# Altium footprint library OWMR.PcbLib: 59 footprints (part 2 of 4)
Each footprint in its own frame and in the unit in brackets; x right, y up, seen from the top. Pads: shape width x height; smd on the part's side, far side on the other; paste and mask are expansions set on the pad; w line width, h text height; cw(c..) or ccw(c..) is an arc to the next point about the centre after c.
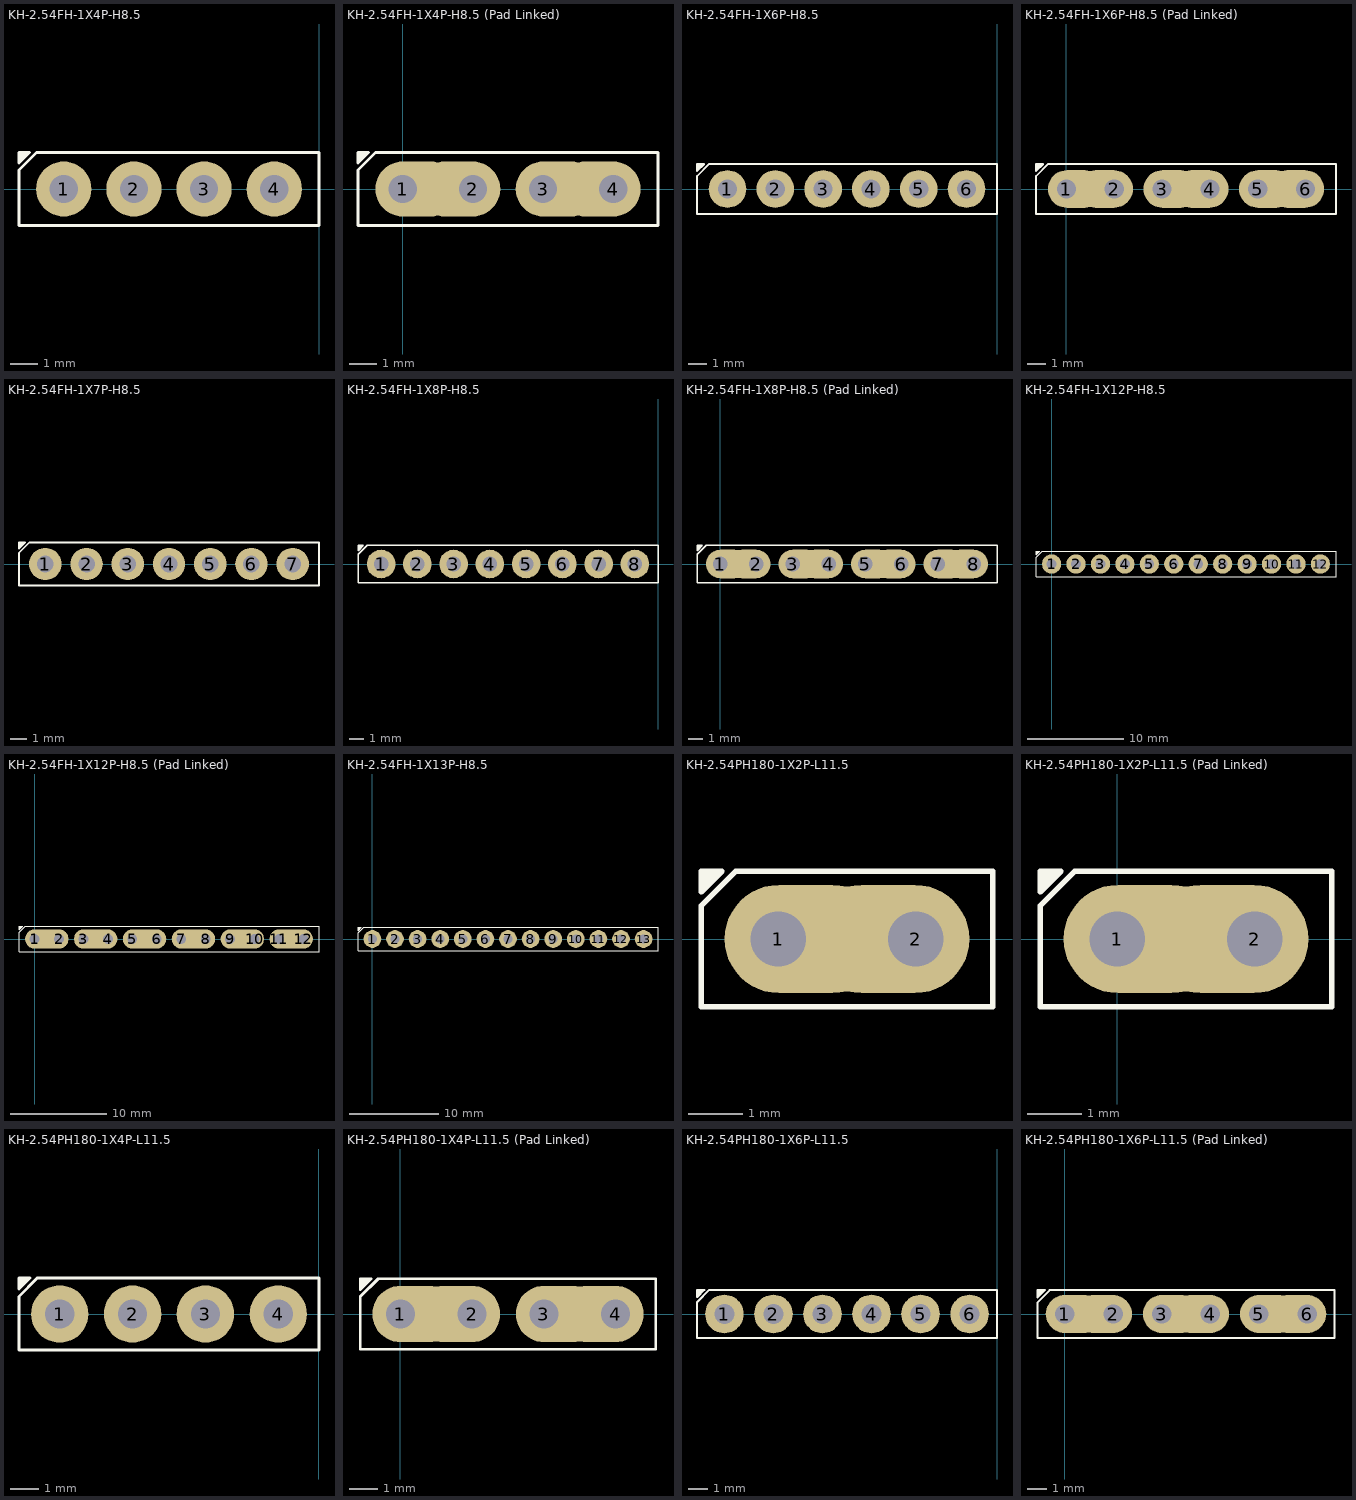
[diagram p1: the footprints below, top view; thin cyan lines are the x and y axes]

## KH-2.54FH-1X4P-H8.5 [mm] "1x4P Female Headers"
height 8.5
pads (4):
  round 2 hole 1.02: 1(-9.24,0) 2(-6.7,0) 3(-4.16,0) 4(-1.62,0)
Top Overlay:
  region: -10.479,1.325 -10.86,1.325 -10.86,0.944
  lines w0.1: -10.86,-1.325 0,-1.325 0,1.325 -10.225,1.325 -10.86,0.69 -10.86,-1.325 ; -10.86,0.944 -10.479,1.325 -10.86,1.325 -10.86,0.944
3D body: height 8.65, standoff 0, extent -10.857,-1.335 0,1.315
3D body: height 3.2, standoff 0, extent -10.891,-1.325 0,1.325

## KH-2.54FH-1X4P-H8.5 (Pad Linked) [mm] "Two Pad Linked, 1x4P Female Headers"
height 8.5
pads (4):
  oval 3x2 hole 1.02 copper offset 0.51,0: 1(0,0) 3(5.08,0)
  oval 3x2 hole 1.02 copper offset -0.51,0: 2(2.54,0) 4(7.62,0)
Top Overlay:
  region: -1.239,1.325 -1.62,1.325 -1.62,0.944
  lines w0.1: -1.62,-1.325 -1.62,0.69 -0.985,1.325 9.24,1.325 9.24,-1.325 -1.62,-1.325 ; -1.62,0.944 -1.62,1.325 -1.239,1.325 -1.62,0.944
3D body: height 8.65, standoff 0, extent -1.617,-1.335 9.24,1.315
3D body: height 3.2, standoff 0, extent -1.651,-1.325 9.24,1.325

## KH-2.54FH-1X6P-H8.5 [mm] "1x6P Female Headers"
height 8.5
pads (6):
  round 2 hole 1.02: 1(-14.32,0) 2(-11.78,0) 3(-9.24,0) 4(-6.7,0) 5(-4.16,0) 6(-1.62,0)
Top Overlay:
  region: -15.559,1.325 -15.94,1.325 -15.94,0.944
  lines w0.1: -15.94,-1.325 0,-1.325 0,1.325 -15.305,1.325 -15.94,0.69 -15.94,-1.325 ; -15.94,0.944 -15.559,1.325 -15.94,1.325 -15.94,0.944
3D body: height 8.65, standoff 0, extent -15.937,-1.335 0,1.315
3D body: height 3.2, standoff 0, extent -15.971,-1.325 0,1.325

## KH-2.54FH-1X6P-H8.5 (Pad Linked) [mm] "Two Pad Linked, 1x6P Female Headers"
height 8.5
pads (6):
  oval 3x2 hole 1.02 copper offset 0.51,0: 1(0,0) 3(5.08,0) 5(10.16,0)
  oval 3x2 hole 1.02 copper offset -0.51,0: 2(2.54,0) 4(7.62,0) 6(12.7,0)
Top Overlay:
  region: -1.239,1.325 -1.62,1.325 -1.62,0.944
  lines w0.1: -1.62,-1.325 14.32,-1.325 14.32,1.325 -0.985,1.325 -1.62,0.69 -1.62,-1.325 ; -1.62,0.944 -1.239,1.325 -1.62,1.325 -1.62,0.944
3D body: height 8.65, standoff 0, extent -1.617,-1.335 14.32,1.315
3D body: height 3.2, standoff 0, extent -1.651,-1.325 14.32,1.325

## KH-2.54FH-1X7P-H8.5 [mm] "1x7P Female Headers"
height 8.5
pads (7):
  round 2 hole 1.02: 1(-19.4,0) 2(-16.86,0) 3(-14.32,0) 4(-11.78,0) 5(-9.24,0) 6(-6.7,0) 7(-4.16,0)
Top Overlay:
  region: -20.639,1.325 -21.02,1.325 -21.02,0.944
  lines w0.1: -21.02,-1.325 -21.02,0.69 -20.385,1.325 -2.54,1.325 -2.54,-1.325 -21.02,-1.325 ; -21.02,0.944 -21.02,1.325 -20.639,1.325 -21.02,0.944
3D body: height 8.65, standoff 0, extent -21.017,-1.335 -2.54,1.315
3D body: height 3.2, standoff 0, extent -21.051,-1.325 -2.54,1.325

## KH-2.54FH-1X8P-H8.5 [mm] "1x8P Female Headers"
height 8.5
pads (8):
  round 2 hole 1.02: 1(-19.4,0) 2(-16.86,0) 3(-14.32,0) 4(-11.78,0) 5(-9.24,0) 6(-6.7,0) 7(-4.16,0) 8(-1.62,0)
Top Overlay:
  region: -20.639,1.325 -21.02,1.325 -21.02,0.944
  lines w0.1: -21.02,-1.325 0,-1.325 0,1.325 -20.385,1.325 -21.02,0.69 -21.02,-1.325 ; -21.02,0.944 -20.639,1.325 -21.02,1.325 -21.02,0.944
3D body: height 8.65, standoff 0, extent -21.017,-1.335 0,1.315
3D body: height 3.2, standoff 0, extent -21.051,-1.325 0,1.325

## KH-2.54FH-1X8P-H8.5 (Pad Linked) [mm] "Two Pad Linked, 1x8P Female Headers"
height 8.5
pads (8):
  oval 3x2 hole 1.02 copper offset 0.51,0: 1(0,0) 3(5.08,0) 5(10.16,0) 7(15.24,0)
  oval 3x2 hole 1.02 copper offset -0.51,0: 2(2.54,0) 4(7.62,0) 6(12.7,0) 8(17.78,0)
Top Overlay:
  region: -1.239,1.325 -1.62,1.325 -1.62,0.944
  lines w0.1: -1.62,-1.325 19.4,-1.325 19.4,1.325 -0.985,1.325 -1.62,0.69 -1.62,-1.325 ; -1.62,0.944 -1.239,1.325 -1.62,1.325 -1.62,0.944
3D body: height 8.65, standoff 0, extent -1.617,-1.335 19.4,1.315
3D body: height 3.2, standoff 0, extent -1.651,-1.325 19.4,1.325

## KH-2.54FH-1X12P-H8.5 [mm] "1x12P Female Headers"
height 8.5
pads (12):
  round 2 hole 1.02: 1(0,0) 2(2.54,0) 3(5.08,0) 4(7.62,0) 5(10.16,0) 6(12.7,0) 7(15.24,0) 8(17.78,0) 9(20.32,0) 10(22.86,0) 11(25.4,0) 12(27.94,0)
Top Overlay:
  region: -1.239,1.325 -1.62,1.325 -1.62,0.944
  lines w0.1: -1.62,-1.325 -1.62,0.69 -0.985,1.325 29.56,1.325 29.56,-1.325 -1.62,-1.325 ; -1.62,0.944 -1.62,1.325 -1.239,1.325 -1.62,0.944
3D body: height 8.65, standoff 0, extent -1.617,-1.335 29.563,1.315
3D body: height 3.2, standoff 0, extent -1.651,-1.325 29.529,1.325

## KH-2.54FH-1X12P-H8.5 (Pad Linked) [mm] "Two Pad Linked, 1x12P Female Headers"
height 8.5
pads (12):
  oval 3x2 hole 1.02 copper offset 0.51,0: 1(0,0) 3(5.08,0) 5(10.16,0) 7(15.24,0) 9(20.32,0) 11(25.4,0)
  oval 3x2 hole 1.02 copper offset -0.51,0: 2(2.54,0) 4(7.62,0) 6(12.7,0) 8(17.78,0) 10(22.86,0) 12(27.94,0)
Top Overlay:
  region: -1.239,1.325 -1.62,1.325 -1.62,0.944
  lines w0.1: -1.62,-1.325 -1.62,0.69 -0.985,1.325 29.56,1.325 29.56,-1.325 -1.62,-1.325 ; -1.62,0.944 -1.62,1.325 -1.239,1.325 -1.62,0.944
3D body: height 8.65, standoff 0, extent -1.617,-1.335 29.563,1.315
3D body: height 3.2, standoff 0, extent -1.651,-1.325 29.529,1.325

## KH-2.54FH-1X13P-H8.5 [mm] "1x13P Female Headers"
height 8.5
pads (13):
  round 2 hole 1.02: 1(0,0) 2(2.54,0) 3(5.08,0) 4(7.62,0) 5(10.16,0) 6(12.7,0) 7(15.24,0) 8(17.78,0) 9(20.32,0) 10(22.86,0) 11(25.4,0) 12(27.94,0) 13(30.48,0)
Top Overlay:
  region: -1.239,1.325 -1.62,1.325 -1.62,0.944
  lines w0.1: -1.62,-1.325 -1.62,0.69 -0.985,1.325 32.1,1.325 32.1,-1.325 -1.62,-1.325 ; -1.62,0.944 -1.62,1.325 -1.239,1.325 -1.62,0.944
3D body: height 8.65, standoff 0, extent -1.617,-1.335 32.1,1.315
3D body: height 3.2, standoff 0, extent -1.651,-1.325 32.1,1.325

## KH-2.54PH180-1X2P-L11.5 [mm] "1x2P Pin Headers"
height 11.5
pads (2):
  oval 3x2 hole 1.02 copper offset 0.51,0: 1(-7.62,0)
  oval 3x2 hole 1.02 copper offset -0.51,0: 2(-5.08,0)
Top Overlay:
  region: -8.659,1.25 -9.04,1.25 -9.04,0.869
  lines w0.1: -9.04,-1.25 -9.04,0.615 -8.405,1.25 -3.66,1.25 -3.66,-1.25 -9.04,-1.25 ; -9.04,0.869 -8.659,1.25 -9.04,1.25 -9.04,0.869
3D body: height 8.9, standoff 0, extent -9.04,-1.25 -3.66,1.25
3D body: height 3.2, standoff 0, extent -9.04,-1.25 -3.66,1.25

## KH-2.54PH180-1X2P-L11.5 (Pad Linked) [mm] "Two Pad linked, 1x2P Pin Headers"
height 11.5
pads (2):
  oval 3x2 hole 1.02 copper offset 0.51,0: 1(0,0)
  oval 3x2 hole 1.02 copper offset -0.51,0: 2(2.54,0)
Top Overlay:
  region: -1.039,1.25 -1.42,1.25 -1.42,0.869
  lines w0.1: -1.42,-1.25 -1.42,0.615 -0.785,1.25 3.96,1.25 3.96,-1.25 -1.42,-1.25 ; -1.42,0.869 -1.039,1.25 -1.42,1.25 -1.42,0.869
3D body: height 3.2, standoff 0, extent -1.42,-1.25 3.96,1.25
3D body: height 8.9, standoff 0, extent -1.42,-1.25 3.96,1.25

## KH-2.54PH180-1X4P-L11.5 [mm] "1x4P Pin Headers"
height 11.5
pads (4):
  round 2 hole 1.02: 1(-9.04,0) 2(-6.5,0) 3(-3.96,0) 4(-1.42,0)
Top Overlay:
  region: -10.079,1.25 -10.46,1.25 -10.46,0.869
  lines w0.1: -10.46,-1.25 0,-1.25 0,1.25 -9.825,1.25 -10.46,0.615 -10.46,-1.25 ; -10.46,0.869 -10.46,1.25 -10.079,1.25 -10.46,0.869
3D body: height 3.2, standoff 0, extent -10.46,-1.25 0,1.25
3D body: height 8.9, standoff 0, extent -10.46,-1.25 0,1.25

## KH-2.54PH180-1X4P-L11.5 (Pad Linked) [mm] "Two Pad linked, 1x4P Pin Headers"
height 11.5
pads (4):
  oval 3x2 hole 1.02 copper offset 0.51,0: 1(0,0) 3(5.08,0)
  oval 3x2 hole 1.02 copper offset -0.51,0: 2(2.54,0) 4(7.62,0)
Top Overlay:
  region: -1.039,1.25 -1.42,1.25 -1.42,0.869
  lines w0.1: -1.42,-1.25 9.04,-1.25 9.04,1.25 -0.785,1.25 -1.42,0.615 -1.42,-1.25 ; -1.42,0.869 -1.42,1.25 -1.039,1.25 -1.42,0.869
3D body: height 3.2, standoff 0, extent -1.42,-1.25 9.04,1.25
3D body: height 8.9, standoff 0, extent -1.42,-1.25 9.04,1.25

## KH-2.54PH180-1X6P-L11.5 [mm] "1x6P Pin Headers"
height 11.5
pads (6):
  round 2 hole 1.02: 1(-14.12,0) 2(-11.58,0) 3(-9.04,0) 4(-6.5,0) 5(-3.96,0) 6(-1.42,0)
Top Overlay:
  region: -15.159,1.25 -15.54,1.25 -15.54,0.869
  lines w0.1: -15.54,-1.25 0,-1.25 0,1.25 -14.905,1.25 -15.54,0.615 -15.54,-1.25 ; -15.54,0.869 -15.54,1.25 -15.159,1.25 -15.54,0.869
3D body: height 3.2, standoff 0, extent -15.54,-1.25 0,1.25
3D body: height 8.9, standoff 0, extent -15.54,-1.25 0,1.25

## KH-2.54PH180-1X6P-L11.5 (Pad Linked) [mm] "Two Pad linked, 1x6P Pin Headers"
height 11.5
pads (6):
  oval 3x2 hole 1.02 copper offset 0.51,0: 1(0,0) 3(5.08,0) 5(10.16,0)
  oval 3x2 hole 1.02 copper offset -0.51,0: 2(2.54,0) 4(7.62,0) 6(12.7,0)
Top Overlay:
  region: -1.039,1.25 -1.42,1.25 -1.42,0.869
  lines w0.1: -1.42,-1.25 14.12,-1.25 14.12,1.25 -0.785,1.25 -1.42,0.615 -1.42,-1.25 ; -1.42,0.869 -1.42,1.25 -1.039,1.25 -1.42,0.869
3D body: height 3.2, standoff 0, extent -1.42,-1.25 14.12,1.25
3D body: height 8.9, standoff 0, extent -1.42,-1.25 14.12,1.25